# Altium schematic symbol library POWER.SchLib: 1 symbol
Pins are listed as number, name and electrical type; pins without a type are passive.

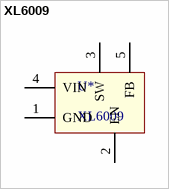
[diagram p0: symbol XL6009]

## XL6009
designator U*
footprint TO-263-5
pins: 1 GND, 2 EN, 3 SW, 4 VIN, 5 FB